# Altium footprint library YuWatchFootPrint.PcbLib: 8 footprints
Each footprint in its own frame and in the unit in brackets; x right, y up, seen from the top. Pads: shape width x height; smd on the part's side, far side on the other; paste and mask are expansions set on the pad; w line width, h text height; cw(c..) or ccw(c..) is an arc to the next point about the centre after c.
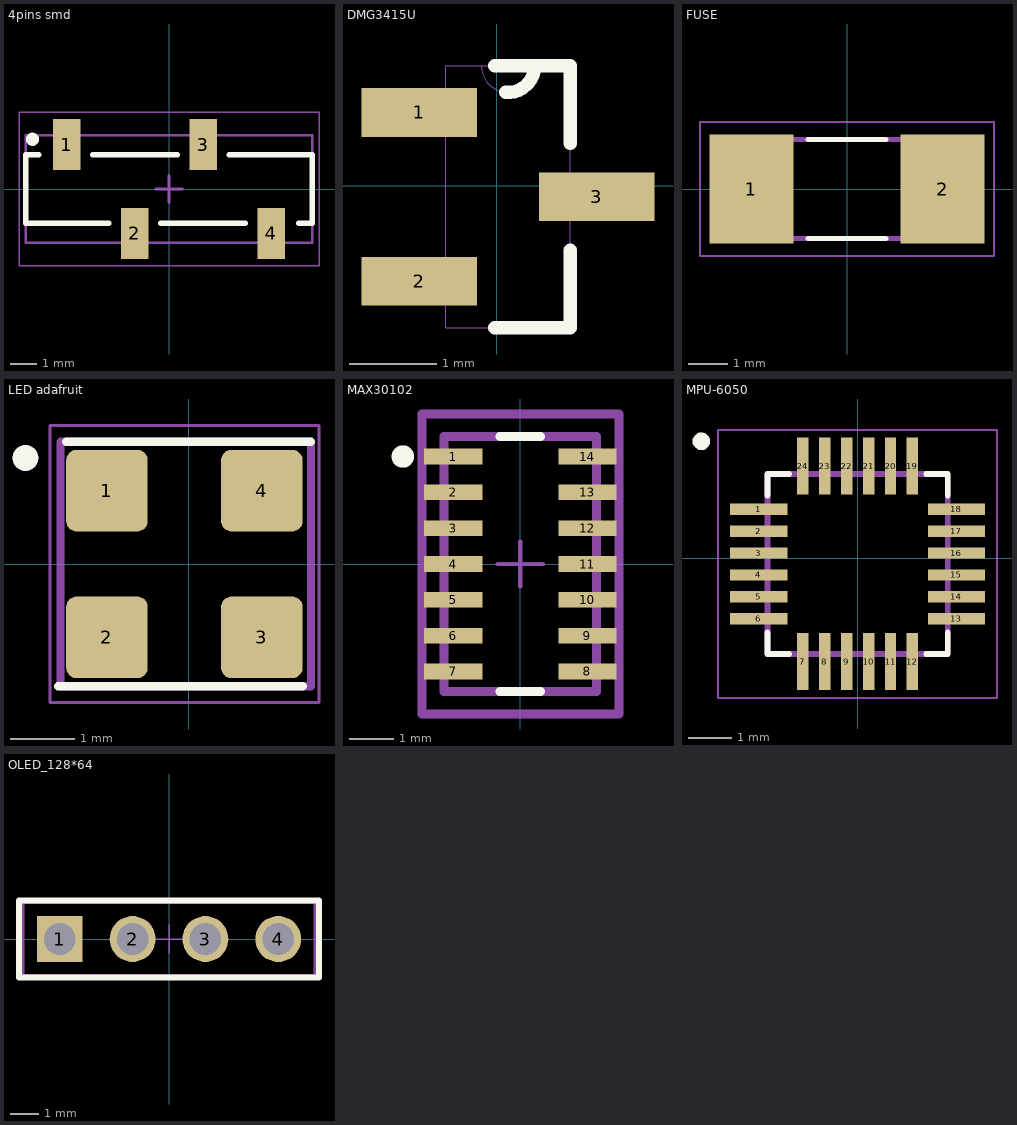
[diagram p0: the footprints below, top view; thin cyan lines are the x and y axes]

## 4pins smd [mm]
pads (4):
  rect 1.02x1.9 smd: 1(-3.81,1.65) 2(-1.27,-1.65) 3(1.27,1.65) 4(3.81,-1.65)
Top Overlay:
  circle w0.25: c-5.08,1.85 r0.12
  lines w0.2: -4.84,1.27 -5.33,1.27 -5.33,-1.27 -2.24,-1.27 ; -2.84,1.27 0.3,1.27 ; -0.3,-1.27 2.84,-1.27 ; 2.24,1.27 5.33,1.27 5.33,-1.27 4.83,-1.27
Mechanical 13:
  lines w0.1: -5.33,-2 5.33,-2 5.33,2 -5.33,2 -5.33,-2
Mechanical 15:
  lines w0.05: -5.58,-2.85 -5.58,2.85 5.58,2.85 5.58,-2.85 -5.58,-2.85
  lines w0.1: -0.5,0 0.5,0 ; 0,-0.5 0,0.5
3D body "BG306_04_A_1_0400_L_B_8.sldprt": height 5.01, standoff 0.01, extent -5.33,-1.27 5.33,1.27

## DMG3415U [mil]
pads (3):
  rect 52x22 smd: 1(-35,33) 2(-35,-43) 3(45,-5)
Top Overlay:
  lines w6: -1,-64 33,-64 33,-29 ; -1,54 17,54 33,54 33,19 ; 3.96,42 ccw(c5,53.96) 17,53.96
Mechanical 13:
  lines w0: -23,-53 -44,-53 -44,-33 -23,-33 ; -23,-53 -23,-33 ; -23,-53 -23,-64 33,-64 33,-15 ; -23,-33 -23,23 ; -23,23 -44,23 -44,43 -23,43 ; -23,23 -23,43 ; -23,43 -23,54 -7,54 ; -7,54 ccw(c5,54) 17,54 ; -7,54 17,54 ; 17,54 33,54 33,5 ; 33,-15 54,-15 54,5 33,5 ; 33,-15 33,5
3D body "Trans_Diodes_DMG3415U-7_eec.STEP": height 43.43, standoff 0, extent -42.24,-62.08 52.24,52.1

## FUSE [mm]
pads (2):
  rect 2.15x2.8 smd: 1(-2.455,0) 2(2.455,0)
Top Overlay:
  lines w0.127: -1,-1.27 1,-1.27 ; -1,1.27 1,1.27
Mechanical 13:
  lines w0.127: -3.05,-1.27 -3.05,1.27 3.05,1.27 3.05,-1.27 -3.05,-1.27
Mechanical 15:
  lines w0.05: -3.78,-1.72 3.78,-1.72 3.78,1.72 -3.78,1.72 -3.78,-1.72
3D body "step_temp.STEP": height 2.79, standoff 0, extent -3.05,-1.27 3.05,1.27

## LED adafruit [mil]
pads (4):
  rrect25% 50x50 smd: 1(-50,45) 2(-50,-45) 3(45,-45) 4(45,45)
Top Overlay:
  circle w7.87: c-100,65 r3.94
  lines w5: -80,-75 70,-75 ; -75,75 75,75
Mechanical 13:
  circle w7.87: c-100,65 r3.94
  lines w5: -78.43,-75 75,-75 75,75 -78.43,75 -78.43,-75
Mechanical 15:
  lines w1.97: -85,-85 -85,85 80,85 80,-85 -85,-85

## MAX30102 [mm]
pads (14):
  rect 1.3x0.35 smd paste+0 mask+0: 1(-1.5,2.4) 2(-1.5,1.6) 3(-1.5,0.8) 4(-1.5,0) 5(-1.5,-0.8) 6(-1.5,-1.6) 7(-1.5,-2.4) 8(1.5,-2.4) 9(1.5,-1.6) 10(1.5,-0.8) 11(1.5,0) 12(1.5,0.8) 13(1.5,1.6) 14(1.5,2.4)
Top Overlay:
  circle w0.25: c-2.625,2.4 r0.125
  lines w0.2: -0.45,-2.85 0.45,-2.85 ; -0.45,2.85 0.45,2.85
Mechanical 5:
  lines w0.2: -2.2,-3.35 2.2,-3.35 2.2,3.35 -2.2,3.35 -2.2,-3.35
Mechanical 13:
  lines w0.2: -1.7,-2.85 1.7,-2.85 1.7,2.85 -1.7,2.85 -1.7,-2.85
Mechanical 15:
  lines w0.2: -2.2,-3.35 2.2,-3.35 2.2,3.35 -2.2,3.35 -2.2,-3.35
Mechanical 16:
  lines w0.1: -0.5,0 0.5,0 ; 0,-0.5 0,0.5
3D body "IC_Maxim_Integrated_MAX30102EFD+_eec.STEP": height 0.25, standoff 0, extent -2.2,-3.35 2.2,3.35

## MPU-6050 [mm]
pads (24):
  rect 1.3x0.26 smd: 1(-2.25,1.123) 2(-2.25,0.623) 3(-2.25,0.123) 4(-2.25,-0.377) 5(-2.25,-0.877) 6(-2.25,-1.377) 13(2.25,-1.377) 14(2.25,-0.877) 15(2.25,-0.377) 16(2.25,0.123) 17(2.25,0.623) 18(2.25,1.123)
  rect 0.26x1.3 smd: 7(-1.25,-2.35) 8(-0.75,-2.35) 9(-0.25,-2.35) 10(0.25,-2.35) 11(0.75,-2.35) 12(1.25,-2.35) 19(1.25,2.1) 20(0.75,2.1) 21(0.25,2.1) 22(-0.25,2.1) 23(-0.75,2.1) 24(-1.25,2.1)
Top Overlay:
  circle w0.2: c-3.556,2.667 r0.1
  lines w0.127: -2.05,-1.687 -2.05,-2.177 -1.56,-2.177 ; -2.05,1.433 -2.05,1.923 -1.56,1.923 ; 1.56,-2.177 2.05,-2.177 2.05,-1.687 ; 1.56,1.923 2.05,1.923 2.05,1.433
Mechanical 13:
  lines w0.127: -2.05,-2.177 -2.05,1.923 2.05,1.923 2.05,-2.177 -2.05,-2.177
Mechanical 15:
  lines w0.05: -3.175,-3.175 -3.175,2.921 3.175,2.921 3.175,-3.175 -3.175,-3.175
3D body "MPU-6050--3DModel-STEP-1.STEP": height 0.94, standoff -0.01, extent -2,-2.127 2,1.873

## OLED_128*64 [mm]
pads (4):
  rect 1.6x1.6 hole 1.1: 1(-3.81,0)
  round 1.6 hole 1.1: 2(-1.27,0) 3(1.27,0) 4(3.81,0)
Top Overlay:
  lines w0.2: -5.23,-1.345 5.23,-1.345 5.23,1.345 -5.23,1.345 -5.23,-1.345
Mechanical 13:
  lines w0.1: -5.08,-1.27 -5.08,1.27 5.08,1.27 5.08,-1.27 -5.08,-1.27
Mechanical 15:
  lines w0.05: -0.5,0 0.5,0 ; 0,-0.5 0,0.5

## PCBComponent_1 [mm]